# Altium schematic symbol library Sch_74HC595.SchLib: 1 symbol
Pins are listed as number, name and electrical type; pins without a type are passive.

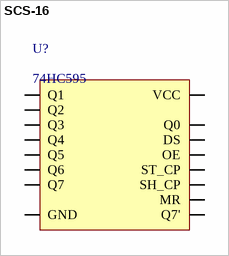
[diagram p0: symbol SCS-16]

## SCS-16
designator U?, comment 74HC595  (no BOM)
SN74HC595N - вихідний зсувний регістр 74HC595
footprint PCB_74HC595_Footprint
pins: 0 GND (power), 1 Q7, 2 Q6, 3 Q5, 4 Q4, 5 Q3, 6 Q2, 7 Q1, 8 VCC (power), 9 Q0, 10 DS, 11 OE, 12 ST_CP, 13 SH_CP, 14 MR, 15 Q7'